# Altium schematic symbol library MPU.SchLib: 1 symbol
Pins are listed as number, name and electrical type; pins without a type are passive.

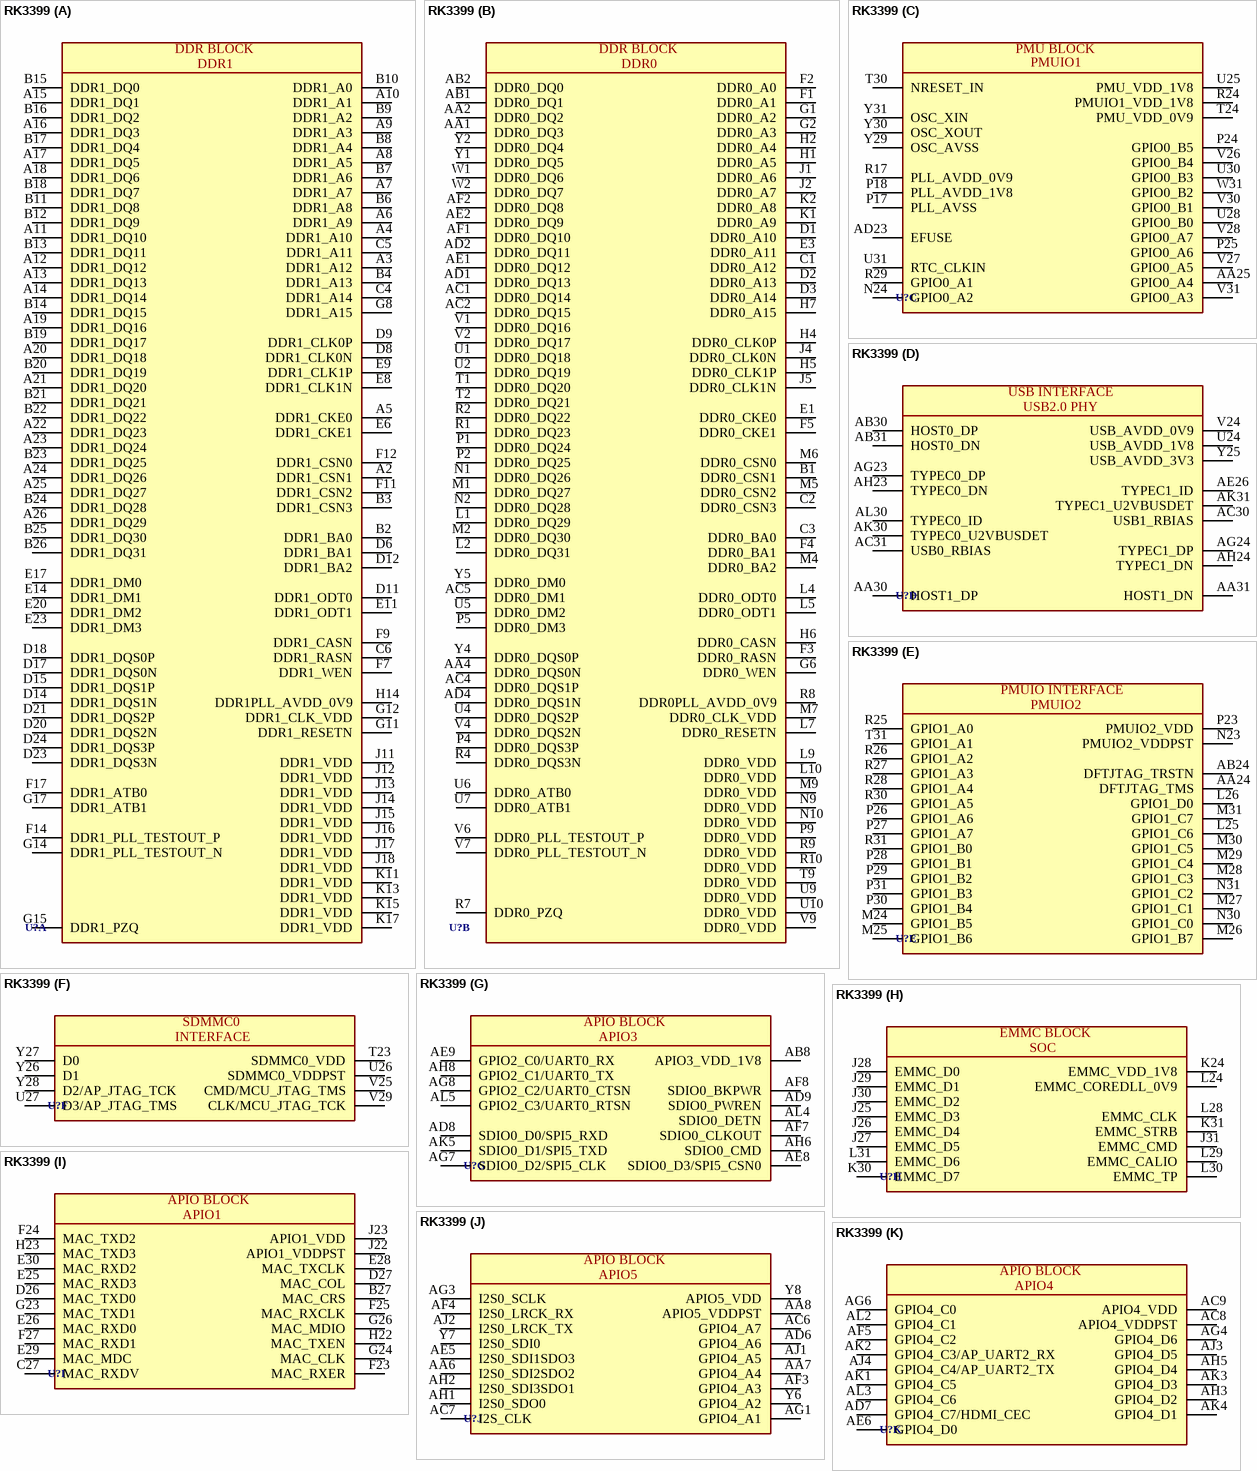
[diagram p0: symbol RK3399]

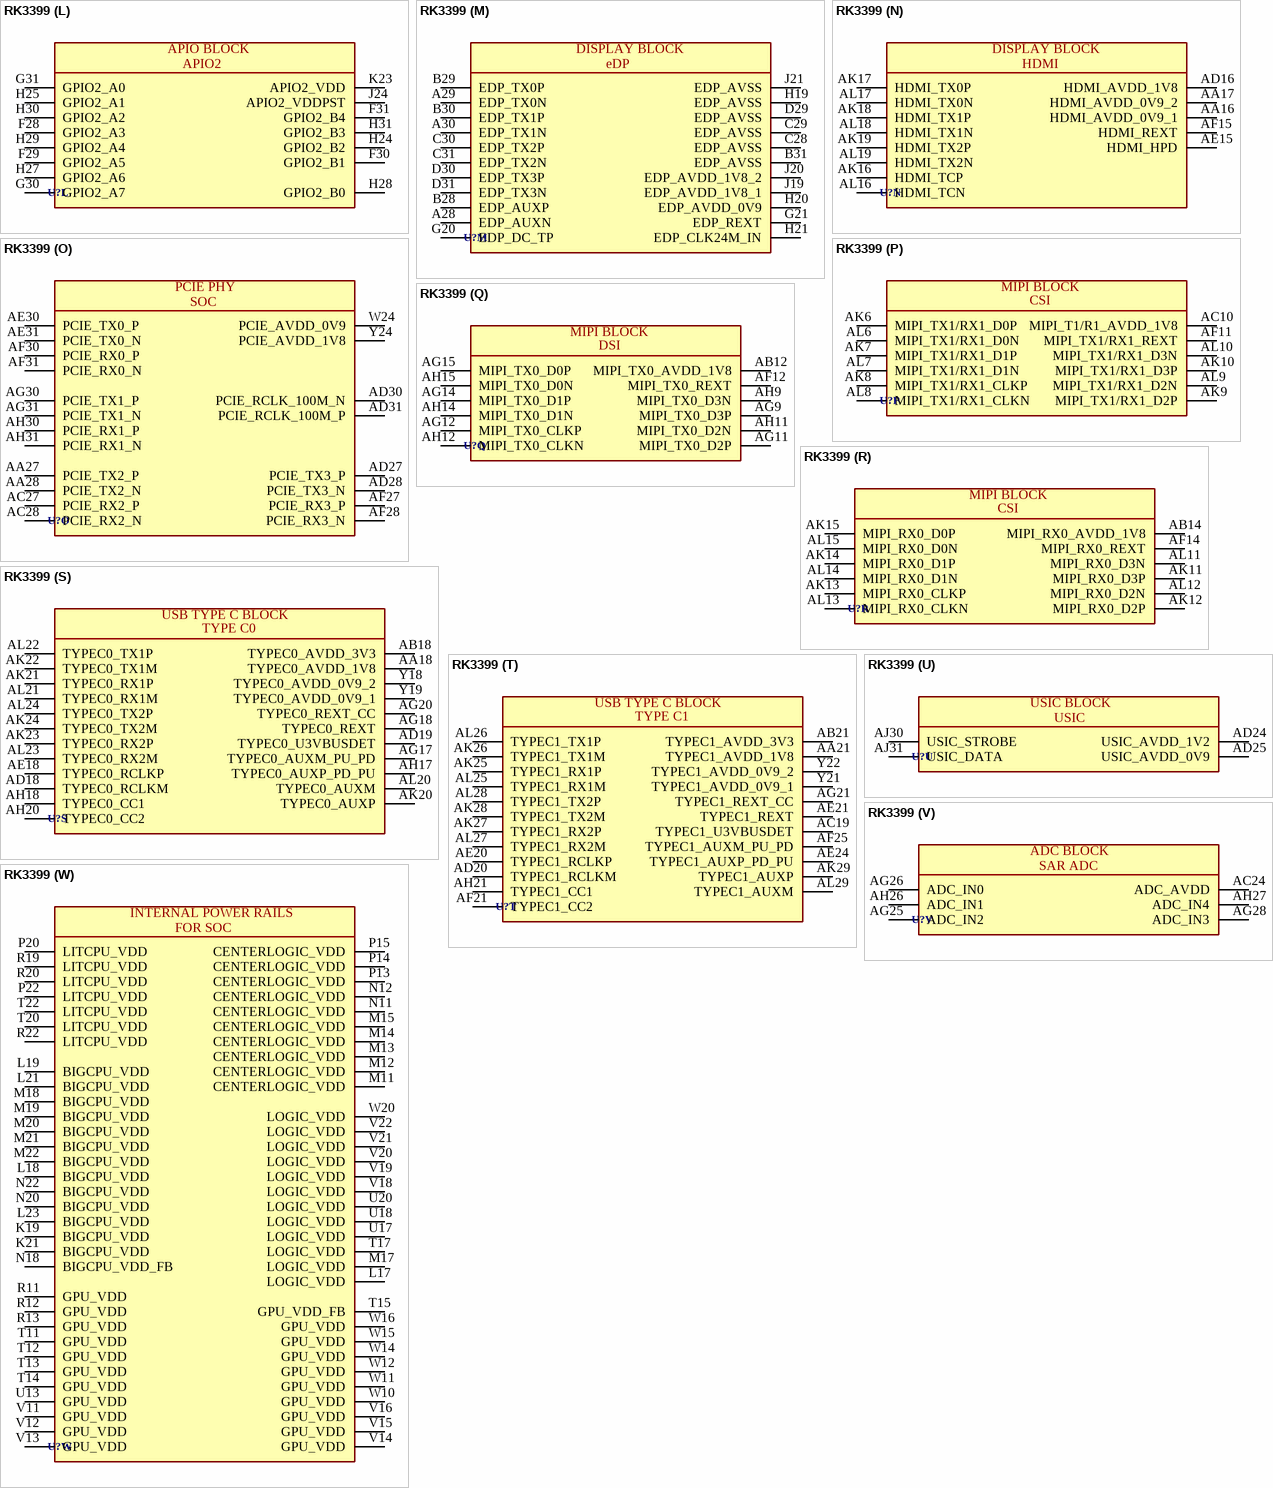
[diagram p1: symbol RK3399]

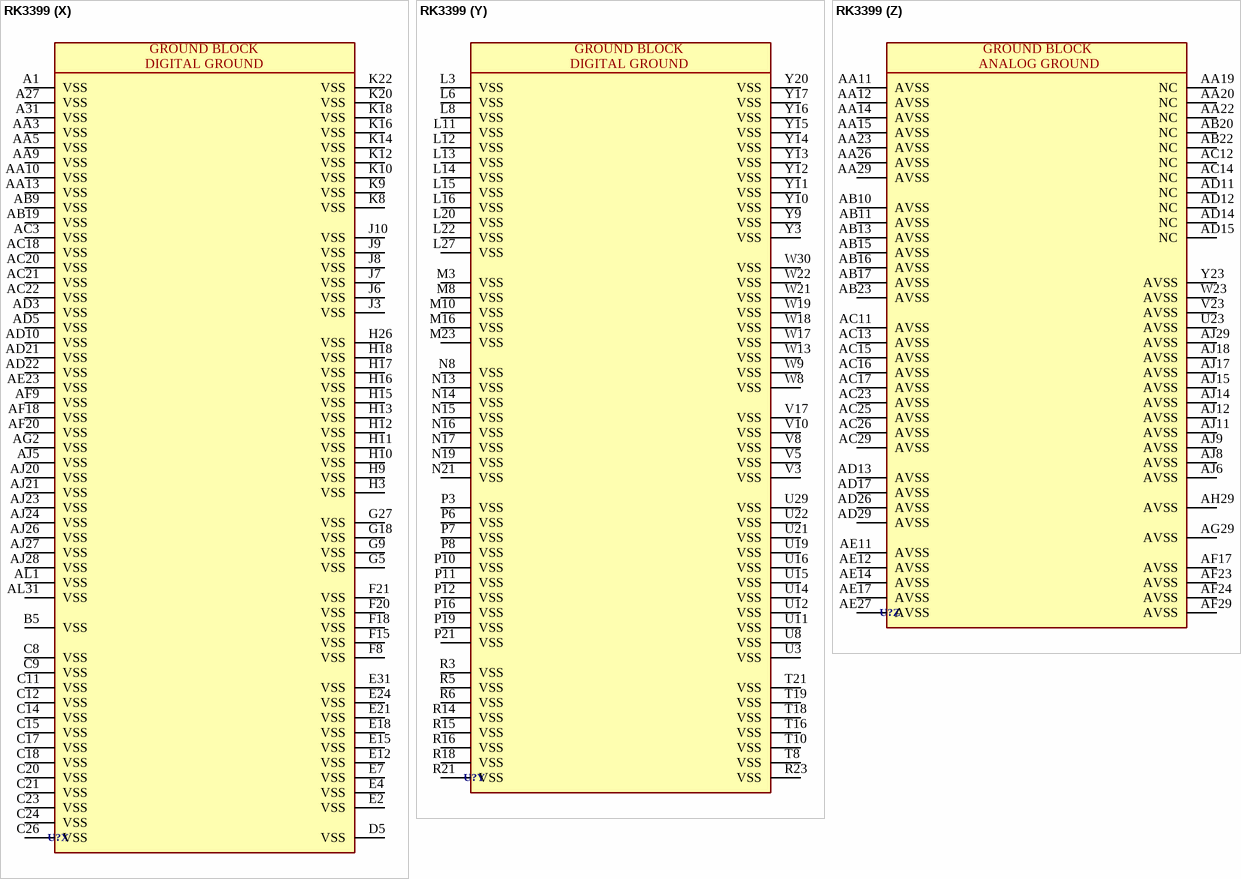
[diagram p2: symbol RK3399]

## RK3399
designator U?
Rockchip RK3399 SoC integrates dual-core Cortex-A72 and quad-core Cortex-A53 with separate NEON coprocessor, and with ARM Mali-T864 GPU; Manufacturer Part Number 1: *; Manufacturer 1: *; Supplier Part Number 1: *; Supplier 1: *; Package: *
footprint BGA828C65P31X31_2102X2052X161 (BGA, 828-Leads, Body 21.03x20.53mmx1.61mm, Pitch 0.65mm)
part A pins: A2 DDR1_CSN1, A3 DDR1_A12, A4 DDR1_A10, A5 DDR1_CKE0, A6 DDR1_A9, A7 DDR1_A7, A8 DDR1_A5, A9 DDR1_A3, A10 DDR1_A1, A11 DDR1_DQ10, A12 DDR1_DQ12, A13 DDR1_DQ13, A14 DDR1_DQ14, A15 DDR1_DQ1, A16 DDR1_DQ3, A17 DDR1_DQ5, A18 DDR1_DQ6, A19 DDR1_DQ16, A20 DDR1_DQ18, A21 DDR1_DQ20, A22 DDR1_DQ23, A23 DDR1_DQ24, A24 DDR1_DQ26, A25 DDR1_DQ27, A26 DDR1_DQ29, B2 DDR1_BA0, B3 DDR1_CSN3, B4 DDR1_A13, B6 DDR1_A8, B7 DDR1_A6, B8 DDR1_A4, B9 DDR1_A2, B10 DDR1_A0, B11 DDR1_DQ8, B12 DDR1_DQ9, B13 DDR1_DQ11, B14 DDR1_DQ15, B15 DDR1_DQ0, B16 DDR1_DQ2, B17 DDR1_DQ4, B18 DDR1_DQ7, B19 DDR1_DQ17, B20 DDR1_DQ19, B21 DDR1_DQ21, B22 DDR1_DQ22, B23 DDR1_DQ25, B24 DDR1_DQ28, B25 DDR1_DQ30, B26 DDR1_DQ31, C4 DDR1_A14, C5 DDR1_A11, C6 DDR1_RASN, D6 DDR1_BA1, D8 DDR1_CLK0N, D9 DDR1_CLK0P, D11 DDR1_ODT0, D12 DDR1_BA2, D14 DDR1_DQS1N, D15 DDR1_DQS1P, D17 DDR1_DQS0N, D18 DDR1_DQS0P, D20 DDR1_DQS2N, D21 DDR1_DQS2P, D23 DDR1_DQS3N, D24 DDR1_DQS3P, E6 DDR1_CKE1, E8 DDR1_CLK1N, E9 DDR1_CLK1P, E11 DDR1_ODT1, E14 DDR1_DM1, E17 DDR1_DM0, E20 DDR1_DM2, E23 DDR1_DM3, F7 DDR1_WEN, F9 DDR1_CASN, F11 DDR1_CSN2, F12 DDR1_CSN0, F14 DDR1_PLL_TESTOUT_P, F17 DDR1_ATB0, G8 DDR1_A15, G11 DDR1_RESETN, G12 DDR1_CLK_VDD, G14 DDR1_PLL_TESTOUT_N, G15 DDR1_PZQ, G17 DDR1_ATB1, H14 DDR1PLL_AVDD_0V9, J11 DDR1_VDD, J12 DDR1_VDD, J13 DDR1_VDD, J14 DDR1_VDD, J15 DDR1_VDD, J16 DDR1_VDD, J17 DDR1_VDD, J18 DDR1_VDD, K11 DDR1_VDD, K13 DDR1_VDD, K15 DDR1_VDD, K17 DDR1_VDD
part B pins: AA1 DDR0_DQ3, AA2 DDR0_DQ2, AA4 DDR0_DQS0N, AB1 DDR0_DQ1, AB2 DDR0_DQ0, AC1 DDR0_DQ14, AC2 DDR0_DQ15, AC4 DDR0_DQS1P, AC5 DDR0_DM1, AD1 DDR0_DQ13, AD2 DDR0_DQ11, AD4 DDR0_DQS1N, AE1 DDR0_DQ12, AE2 DDR0_DQ9, AF1 DDR0_DQ10, AF2 DDR0_DQ8, B1 DDR0_CSN1, C1 DDR0_A12, C2 DDR0_CSN3, C3 DDR0_BA0, D1 DDR0_A10, D2 DDR0_A13, D3 DDR0_A14, E1 DDR0_CKE0, E3 DDR0_A11, F1 DDR0_A1, F2 DDR0_A0, F3 DDR0_RASN, F4 DDR0_BA1, F5 DDR0_CKE1, G1 DDR0_A2, G2 DDR0_A3, G6 DDR0_WEN, H1 DDR0_A5, H2 DDR0_A4, H4 DDR0_CLK0P, H5 DDR0_CLK1P, H6 DDR0_CASN, H7 DDR0_A15, J1 DDR0_A6, J2 DDR0_A7, J4 DDR0_CLK0N, J5 DDR0_CLK1N, K1 DDR0_A9, K2 DDR0_A8, L1 DDR0_DQ29, L2 DDR0_DQ31, L4 DDR0_ODT0, L5 DDR0_ODT1, L7 DDR0_RESETN, L9 DDR0_VDD, L10 DDR0_VDD, M1 DDR0_DQ27, M2 DDR0_DQ30, M4 DDR0_BA2, M5 DDR0_CSN2, M6 DDR0_CSN0, M7 DDR0_CLK_VDD, M9 DDR0_VDD, N1 DDR0_DQ26, N2 DDR0_DQ28, N9 DDR0_VDD, N10 DDR0_VDD, P1 DDR0_DQ24, P2 DDR0_DQ25, P4 DDR0_DQS3P, P5 DDR0_DM3, P9 DDR0_VDD, R1 DDR0_DQ23, R2 DDR0_DQ22, R4 DDR0_DQS3N, R7 DDR0_PZQ, R8 DDR0PLL_AVDD_0V9, R9 DDR0_VDD, R10 DDR0_VDD, T1 DDR0_DQ20, T2 DDR0_DQ21, T9 DDR0_VDD, U1 DDR0_DQ18, U2 DDR0_DQ19, U4 DDR0_DQS2P, U5 DDR0_DM2, U6 DDR0_ATB0, U7 DDR0_ATB1, U9 DDR0_VDD, U10 DDR0_VDD, V1 DDR0_DQ16, V2 DDR0_DQ17, V4 DDR0_DQS2N, V6 DDR0_PLL_TESTOUT_P, V7 DDR0_PLL_TESTOUT_N, V9 DDR0_VDD, W1 DDR0_DQ6, W2 DDR0_DQ7, Y1 DDR0_DQ5, Y2 DDR0_DQ4, Y4 DDR0_DQS0P, Y5 DDR0_DM0
part C pins: AA25 GPIO0_A4, AD23 EFUSE, N24 GPIO0_A2, P17 PLL_AVSS (power), P18 PLL_AVDD_1V8, P24 GPIO0_B5, P25 GPIO0_A6, R17 PLL_AVDD_0V9, R24 PMUIO1_VDD_1V8 (power), R29 GPIO0_A1, T24 PMU_VDD_0V9 (power), T30 NRESET_IN, U25 PMU_VDD_1V8 (power), U28 GPIO0_B0, U30 GPIO0_B3, U31 RTC_CLKIN, V26 GPIO0_B4, V27 GPIO0_A5, V28 GPIO0_A7, V30 GPIO0_B1, V31 GPIO0_A3, W31 GPIO0_B2, Y29 OSC_AVSS (power), Y30 OSC_XOUT, Y31 OSC_XIN
part D pins: AA30 HOST1_DP, AA31 HOST1_DN, AB30 HOST0_DP, AB31 HOST0_DN, AC30 USB1_RBIAS, AC31 USB0_RBIAS, AE26 TYPEC1_ID, AG23 TYPEC0_DP, AG24 TYPEC1_DP, AH23 TYPEC0_DN, AH24 TYPEC1_DN, AK30 TYPEC0_U2VBUSDET, AK31 TYPEC1_U2VBUSDET, AL30 TYPEC0_ID, U24 USB_AVDD_1V8, V24 USB_AVDD_0V9, Y25 USB_AVDD_3V3
part E pins: AA24 DFTJTAG_TMS, AB24 DFTJTAG_TRSTN, L25 GPIO1_C6, L26 GPIO1_D0, M24 GPIO1_B5, M25 GPIO1_B6, M26 GPIO1_B7, M27 GPIO1_C1, M28 GPIO1_C3, M29 GPIO1_C4, M30 GPIO1_C5, M31 GPIO1_C7, N23 PMUIO2_VDDPST, N30 GPIO1_C0, N31 GPIO1_C2, P23 PMUIO2_VDD, P26 GPIO1_A6, P27 GPIO1_A7, P28 GPIO1_B1, P29 GPIO1_B2, P30 GPIO1_B4, P31 GPIO1_B3, R25 GPIO1_A0, R26 GPIO1_A2, R27 GPIO1_A3, R28 GPIO1_A4, R30 GPIO1_A5, R31 GPIO1_B0, T31 GPIO1_A1
part F pins: T23 SDMMC0_VDD, U26 SDMMC0_VDDPST, U27 D3/AP_JTAG_TMS, V25 CMD/MCU_JTAG_TMS, V29 CLK/MCU_JTAG_TCK, Y26 D1, Y27 D0, Y28 D2/AP_JTAG_TCK
part G pins: AB8 APIO3_VDD_1V8, AD8 SDIO0_D0/SPI5_RXD, AD9 SDIO0_PWREN, AE8 SDIO0_D3/SPI5_CSN0, AE9 GPIO2_C0/UART0_RX, AF7 SDIO0_CLKOUT, AF8 SDIO0_BKPWR, AG7 SDIO0_D2/SPI5_CLK, AG8 GPIO2_C2/UART0_CTSN, AH6 SDIO0_CMD, AH8 GPIO2_C1/UART0_TX, AK5 SDIO0_D1/SPI5_TXD, AL4 SDIO0_DETN, AL5 GPIO2_C3/UART0_RTSN
part H pins: J25 EMMC_D3, J26 EMMC_D4, J27 EMMC_D5, J28 EMMC_D0, J29 EMMC_D1, J30 EMMC_D2, J31 EMMC_CMD, K24 EMMC_VDD_1V8, K30 EMMC_D7, K31 EMMC_STRB, L24 EMMC_COREDLL_0V9, L28 EMMC_CLK, L29 EMMC_CALIO, L30 EMMC_TP, L31 EMMC_D6
part I pins: B27 MAC_CRS, C27 MAC_RXDV, D26 MAC_TXD0, D27 MAC_COL, E25 MAC_RXD3, E26 MAC_RXD0, E28 MAC_TXCLK, E29 MAC_MDC, E30 MAC_RXD2, F23 MAC_RXER, F24 MAC_TXD2, F25 MAC_RXCLK, F27 MAC_RXD1, G23 MAC_TXD1, G24 MAC_CLK, G26 MAC_MDIO, H22 MAC_TXEN, H23 MAC_TXD3, J22 APIO1_VDDPST, J23 APIO1_VDD
part J pins: AA6 I2S0_SDI2SDO2, AA7 GPIO4_A4, AA8 APIO5_VDDPST, AC6 GPIO4_A7, AC7 I2S_CLK, AD6 GPIO4_A6, AE5 I2S0_SDI1SDO3, AF3 GPIO4_A3, AF4 I2S0_LRCK_RX, AG1 GPIO4_A1, AG3 I2S0_SCLK, AH1 I2S0_SDO0, AH2 I2S0_SDI3SDO1, AJ1 GPIO4_A5, AJ2 I2S0_LRCK_TX, Y6 GPIO4_A2, Y7 I2S0_SDI0, Y8 APIO5_VDD
part K pins: AC8 APIO4_VDDPST, AC9 APIO4_VDD, AD7 GPIO4_C7/HDMI_CEC, AE6 GPIO4_D0, AF5 GPIO4_C2, AG4 GPIO4_D6, AG6 GPIO4_C0, AH3 GPIO4_D2, AH5 GPIO4_D4, AJ3 GPIO4_D5, AJ4 GPIO4_C4/AP_UART2_TX, AK1 GPIO4_C5, AK2 GPIO4_C3/AP_UART2_RX, AK3 GPIO4_D3, AK4 GPIO4_D1, AL2 GPIO4_C1, AL3 GPIO4_C6
part L pins: F28 GPIO2_A3, F29 GPIO2_A5, F30 GPIO2_B1, F31 GPIO2_B4, G30 GPIO2_A7, G31 GPIO2_A0, H24 GPIO2_B2, H25 GPIO2_A1, H27 GPIO2_A6, H28 GPIO2_B0, H29 GPIO2_A4, H30 GPIO2_A2, H31 GPIO2_B3, J24 APIO2_VDDPST, K23 APIO2_VDD
part M pins: A28 EDP_AUXN, A29 EDP_TX0N, A30 EDP_TX1N, B28 EDP_AUXP, B29 EDP_TX0P, B30 EDP_TX1P, B31 EDP_AVSS (power), C28 EDP_AVSS (power), C29 EDP_AVSS (power), C30 EDP_TX2P, C31 EDP_TX2N, D29 EDP_AVSS (power), D30 EDP_TX3P, D31 EDP_TX3N, G20 EDP_DC_TP, G21 EDP_REXT, H19 EDP_AVSS (power), H20 EDP_AVDD_0V9 (power), H21 EDP_CLK24M_IN, J19 EDP_AVDD_1V8_1 (power), J20 EDP_AVDD_1V8_2 (power), J21 EDP_AVSS (power)
part N pins: AA16 HDMI_AVDD_0V9_1, AA17 HDMI_AVDD_0V9_2, AD16 HDMI_AVDD_1V8, AE15 HDMI_HPD, AF15 HDMI_REXT, AK16 HDMI_TCP, AK17 HDMI_TX0P, AK18 HDMI_TX1P, AK19 HDMI_TX2P, AL16 HDMI_TCN, AL17 HDMI_TX0N, AL18 HDMI_TX1N, AL19 HDMI_TX2N
part O pins: AA27 PCIE_TX2_P, AA28 PCIE_TX2_N, AC27 PCIE_RX2_P, AC28 PCIE_RX2_N, AD27 PCIE_TX3_P, AD28 PCIE_TX3_N, AD30 PCIE_RCLK_100M_N, AD31 PCIE_RCLK_100M_P, AE30 PCIE_TX0_P, AE31 PCIE_TX0_N, AF27 PCIE_RX3_P, AF28 PCIE_RX3_N, AF30 PCIE_RX0_P, AF31 PCIE_RX0_N, AG30 PCIE_TX1_P, AG31 PCIE_TX1_N, AH30 PCIE_RX1_P, AH31 PCIE_RX1_N, W24 PCIE_AVDD_0V9, Y24 PCIE_AVDD_1V8
part P pins: AC10 MIPI_T1/R1_AVDD_1V8, AF11 MIPI_TX1/RX1_REXT, AK6 MIPI_TX1/RX1_D0P, AK7 MIPI_TX1/RX1_D1P, AK8 MIPI_TX1/RX1_CLKP, AK9 MIPI_TX1/RX1_D2P, AK10 MIPI_TX1/RX1_D3P, AL6 MIPI_TX1/RX1_D0N, AL7 MIPI_TX1/RX1_D1N, AL8 MIPI_TX1/RX1_CLKN, AL9 MIPI_TX1/RX1_D2N, AL10 MIPI_TX1/RX1_D3N
part Q pins: AB12 MIPI_TX0_AVDD_1V8, AF12 MIPI_TX0_REXT, AG9 MIPI_TX0_D3P, AG11 MIPI_TX0_D2P, AG12 MIPI_TX0_CLKP, AG14 MIPI_TX0_D1P, AG15 MIPI_TX0_D0P, AH9 MIPI_TX0_D3N, AH11 MIPI_TX0_D2N, AH12 MIPI_TX0_CLKN, AH14 MIPI_TX0_D1N, AH15 MIPI_TX0_D0N
part R pins: AB14 MIPI_RX0_AVDD_1V8, AF14 MIPI_RX0_REXT, AK11 MIPI_RX0_D3P, AK12 MIPI_RX0_D2P, AK13 MIPI_RX0_CLKP, AK14 MIPI_RX0_D1P, AK15 MIPI_RX0_D0P, AL11 MIPI_RX0_D3N, AL12 MIPI_RX0_D2N, AL13 MIPI_RX0_CLKN, AL14 MIPI_RX0_D1N, AL15 MIPI_RX0_D0N
part S pins: AA18 TYPEC0_AVDD_1V8, AB18 TYPEC0_AVDD_3V3, AD18 TYPEC0_RCLKM, AD19 TYPEC0_U3VBUSDET, AE18 TYPEC0_RCLKP, AG17 TYPEC0_AUXM_PU_PD, AG18 TYPEC0_REXT, AG20 TYPEC0_REXT_CC, AH17 TYPEC0_AUXP_PD_PU, AH18 TYPEC0_CC1, AH20 TYPEC0_CC2, AK20 TYPEC0_AUXP, AK21 TYPEC0_RX1P, AK22 TYPEC0_TX1M, AK23 TYPEC0_RX2P, AK24 TYPEC0_TX2M, AL20 TYPEC0_AUXM, AL21 TYPEC0_RX1M, AL22 TYPEC0_TX1P, AL23 TYPEC0_RX2M, AL24 TYPEC0_TX2P, Y18 TYPEC0_AVDD_0V9_2, Y19 TYPEC0_AVDD_0V9_1
part T pins: AA21 TYPEC1_AVDD_1V8, AB21 TYPEC1_AVDD_3V3, AC19 TYPEC1_U3VBUSDET, AD20 TYPEC1_RCLKM, AE20 TYPEC1_RCLKP, AE21 TYPEC1_REXT, AE24 TYPEC1_AUXP_PD_PU, AF21 TYPEC1_CC2, AF25 TYPEC1_AUXM_PU_PD, AG21 TYPEC1_REXT_CC, AH21 TYPEC1_CC1, AK25 TYPEC1_RX1P, AK26 TYPEC1_TX1M, AK27 TYPEC1_RX2P, AK28 TYPEC1_TX2M, AK29 TYPEC1_AUXP, AL25 TYPEC1_RX1M, AL26 TYPEC1_TX1P, AL27 TYPEC1_RX2M, AL28 TYPEC1_TX2P, AL29 TYPEC1_AUXM, Y21 TYPEC1_AVDD_0V9_1, Y22 TYPEC1_AVDD_0V9_2
part U pins: AD24 USIC_AVDD_1V2, AD25 USIC_AVDD_0V9, AJ30 USIC_STROBE, AJ31 USIC_DATA
part V pins: AC24 ADC_AVDD (power), AG25 ADC_IN2, AG26 ADC_IN0, AG28 ADC_IN3, AH26 ADC_IN1, AH27 ADC_IN4
part W pins: K19 BIGCPU_VDD (power), K21 BIGCPU_VDD (power), L17 LOGIC_VDD (power), L18 BIGCPU_VDD (power), L19 BIGCPU_VDD (power), L21 BIGCPU_VDD (power), L23 BIGCPU_VDD (power), M11 CENTERLOGIC_VDD (power), M12 CENTERLOGIC_VDD (power), M13 CENTERLOGIC_VDD (power), M14 CENTERLOGIC_VDD (power), M15 CENTERLOGIC_VDD (power), M17 LOGIC_VDD (power), M18 BIGCPU_VDD (power), M19 BIGCPU_VDD (power), M20 BIGCPU_VDD (power), M21 BIGCPU_VDD (power), M22 BIGCPU_VDD (power), N11 CENTERLOGIC_VDD (power), N12 CENTERLOGIC_VDD (power), N18 BIGCPU_VDD_FB (power), N20 BIGCPU_VDD (power), N22 BIGCPU_VDD (power), P13 CENTERLOGIC_VDD (power), P14 CENTERLOGIC_VDD (power), P15 CENTERLOGIC_VDD (power), P20 LITCPU_VDD (power), P22 LITCPU_VDD (power), R11 GPU_VDD (power), R12 GPU_VDD (power), R13 GPU_VDD (power), R19 LITCPU_VDD (power), R20 LITCPU_VDD (power), R22 LITCPU_VDD (power), T11 GPU_VDD (power), T12 GPU_VDD (power), T13 GPU_VDD (power), T14 GPU_VDD (power), T15 GPU_VDD_FB (power), T17 LOGIC_VDD (power), T20 LITCPU_VDD (power), T22 LITCPU_VDD (power), U13 GPU_VDD (power), U17 LOGIC_VDD (power), U18 LOGIC_VDD (power), U20 LOGIC_VDD (power), V11 GPU_VDD (power), V12 GPU_VDD (power), V13 GPU_VDD (power), V14 GPU_VDD (power), V15 GPU_VDD (power), V16 GPU_VDD (power), V18 LOGIC_VDD (power), V19 LOGIC_VDD (power), V20 LOGIC_VDD (power), V21 LOGIC_VDD (power), V22 LOGIC_VDD (power), W10 GPU_VDD (power), W11 GPU_VDD (power), W12 GPU_VDD (power), W14 GPU_VDD (power), W15 GPU_VDD (power), W16 GPU_VDD (power), W20 LOGIC_VDD (power)
part X pins: A1 VSS (power), A27 VSS (power), A31 VSS (power), AA3 VSS (power), AA5 VSS (power), AA9 VSS (power), AA10 VSS (power), AA13 VSS (power), AB9 VSS (power), AB19 VSS (power), AC3 VSS (power), AC18 VSS (power), AC20 VSS (power), AC21 VSS (power), AC22 VSS (power), AD3 VSS (power), AD5 VSS (power), AD10 VSS (power), AD21 VSS (power), AD22 VSS (power), AE23 VSS (power), AF9 VSS (power), AF18 VSS (power), AF20 VSS (power), AG2 VSS (power), AJ5 VSS (power), AJ20 VSS (power), AJ21 VSS (power), AJ23 VSS (power), AJ24 VSS (power), AJ26 VSS (power), AJ27 VSS (power), AJ28 VSS (power), AL1 VSS (power), AL31 VSS (power), B5 VSS (power), C8 VSS (power), C9 VSS (power), C11 VSS (power), C12 VSS (power), C14 VSS (power), C15 VSS (power), C17 VSS (power), C18 VSS (power), C20 VSS (power), C21 VSS (power), C23 VSS (power), C24 VSS (power), C26 VSS (power), D5 VSS (power), E2 VSS (power), E4 VSS (power), E7 VSS (power), E12 VSS (power), E15 VSS (power), E18 VSS (power), E21 VSS (power), E24 VSS (power), E31 VSS (power), F8 VSS (power), F15 VSS (power), F18 VSS (power), F20 VSS (power), F21 VSS (power), G5 VSS (power), G9 VSS (power), G18 VSS (power), G27 VSS (power), H3 VSS (power), H9 VSS (power), H10 VSS (power), H11 VSS (power), H12 VSS (power), H13 VSS (power), H15 VSS (power), H16 VSS (power), H17 VSS (power), H18 VSS (power), H26 VSS (power), J3 VSS (power), J6 VSS (power), J7 VSS (power), J8 VSS (power), J9 VSS (power), J10 VSS (power), K8 VSS (power), K9 VSS (power), K10 VSS (power), K12 VSS (power), K14 VSS (power), K16 VSS (power), K18 VSS (power), K20 VSS (power), K22 VSS (power)
part Y pins: L3 VSS (power), L6 VSS (power), L8 VSS (power), L11 VSS (power), L12 VSS (power), L13 VSS (power), L14 VSS (power), L15 VSS (power), L16 VSS (power), L20 VSS (power), L22 VSS (power), L27 VSS (power), M3 VSS (power), M8 VSS (power), M10 VSS (power), M16 VSS (power), M23 VSS (power), N8 VSS (power), N13 VSS (power), N14 VSS (power), N15 VSS (power), N16 VSS (power), N17 VSS (power), N19 VSS (power), N21 VSS (power), P3 VSS (power), P6 VSS (power), P7 VSS (power), P8 VSS (power), P10 VSS (power), P11 VSS (power), P12 VSS (power), P16 VSS (power), P19 VSS (power), P21 VSS (power), R3 VSS (power), R5 VSS (power), R6 VSS (power), R14 VSS (power), R15 VSS (power), R16 VSS (power), R18 VSS (power), R21 VSS (power), R23 VSS (power), T8 VSS (power), T10 VSS (power), T16 VSS (power), T18 VSS (power), T19 VSS (power), T21 VSS (power), U3 VSS (power), U8 VSS (power), U11 VSS (power), U12 VSS (power), U14 VSS (power), U15 VSS (power), U16 VSS (power), U19 VSS (power), U21 VSS (power), U22 VSS (power), U29 VSS (power), V3 VSS (power), V5 VSS (power), V8 VSS (power), V10 VSS (power), V17 VSS (power), W8 VSS (power), W9 VSS (power), W13 VSS (power), W17 VSS (power), W18 VSS (power), W19 VSS (power), W21 VSS (power), W22 VSS (power), W30 VSS (power), Y3 VSS (power), Y9 VSS (power), Y10 VSS (power), Y11 VSS (power), Y12 VSS (power), Y13 VSS (power), Y14 VSS (power), Y15 VSS (power), Y16 VSS (power), Y17 VSS (power), Y20 VSS (power)
part Z pins: AA11 AVSS (power), AA12 AVSS (power), AA14 AVSS (power), AA15 AVSS (power), AA19 NC, AA20 NC, AA22 NC, AA23 AVSS (power), AA26 AVSS (power), AA29 AVSS (power), AB10 AVSS (power), AB11 AVSS (power), AB13 AVSS (power), AB15 AVSS (power), AB16 AVSS (power), AB17 AVSS (power), AB20 NC, AB22 NC, AB23 AVSS (power), AC11 AVSS (power), AC12 NC, AC13 AVSS (power), AC14 NC, AC15 AVSS (power), AC16 AVSS (power), AC17 AVSS (power), AC23 AVSS (power), AC25 AVSS (power), AC26 AVSS (power), AC29 AVSS (power), AD11 NC, AD12 NC, AD13 AVSS (power), AD14 NC, AD15 NC, AD17 AVSS (power), AD26 AVSS (power), AD29 AVSS (power), AE11 AVSS (power), AE12 AVSS (power), AE14 AVSS (power), AE17 AVSS (power), AE27 AVSS (power), AF17 AVSS (power), AF23 AVSS (power), AF24 AVSS (power), AF29 AVSS (power), AG29 AVSS (power), AH29 AVSS (power), AJ6 AVSS (power), AJ8 AVSS (power), AJ9 AVSS (power), AJ11 AVSS (power), AJ12 AVSS (power), AJ14 AVSS (power), AJ15 AVSS (power), AJ17 AVSS (power), AJ18 AVSS (power), AJ29 AVSS (power), U23 AVSS (power), V23 AVSS (power), W23 AVSS (power), Y23 AVSS (power)
part A text: DDR BLOCK; DDR1
part B text: DDR BLOCK; DDR0
part C text: PMU BLOCK; PMUIO1
part D text: USB INTERFACE; USB2.0 PHY
part E text: PMUIO INTERFACE; PMUIO2
part F text: SDMMC0; INTERFACE
part G text: APIO BLOCK; APIO3
part H text: EMMC BLOCK; SOC
part I text: APIO BLOCK; APIO1
part J text: APIO BLOCK; APIO5
part K text: APIO BLOCK; APIO4
part L text: APIO BLOCK; APIO2
part M text: DISPLAY BLOCK; eDP
part N text: DISPLAY BLOCK; HDMI
part O text: PCIE PHY; SOC
part P text: MIPI BLOCK; CSI
part Q text: MIPI BLOCK; DSI
part R text: MIPI BLOCK; CSI
part S text: USB TYPE C BLOCK; TYPE C0
part T text: USB TYPE C BLOCK; TYPE C1
part U text: USIC BLOCK; USIC
part V text: ADC BLOCK; SAR ADC
part W text: INTERNAL POWER RAILS; FOR SOC
part X text: GROUND BLOCK; DIGITAL GROUND
part Y text: GROUND BLOCK; DIGITAL GROUND
part Z text: GROUND BLOCK; ANALOG GROUND